# Altium footprint library CONN PWR JACK.PcbLib: 1 footprints
Each footprint in its own frame and in the unit in brackets; x right, y up, seen from the top. Pads: shape width x height; smd on the part's side, far side on the other; paste and mask are expansions set on the pad; w line width, h text height; cw(c..) or ccw(c..) is an arc to the next point about the centre after c.
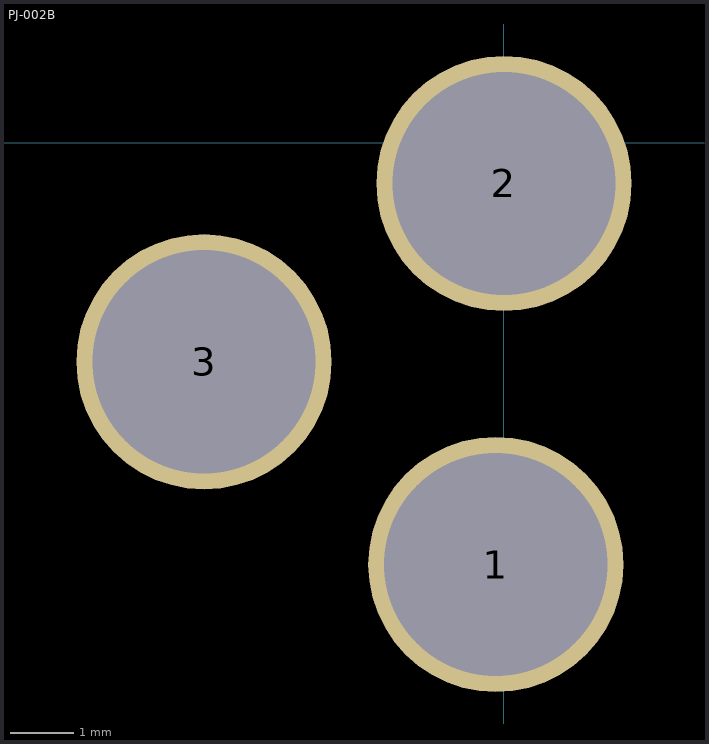
[diagram p0: the footprint, top view; thin cyan lines are the x and y axes]

## PJ-002B [mm] "CONN PWR JACK 2.5X5.5MM"
pads (3):
  round 4 hole 3.5: 1(-0.127,-6.604) 2(0,-0.635) 3(-4.699,-3.429)
3D body "CUI_PJ-002B.step": height 11, standoff -3.5, extent -4.994,-7.2 4.406,7.2